# Altium schematic symbol library MyLib.SchLib: 2 symbols
Pins are listed as number, name and electrical type; pins without a type are passive.

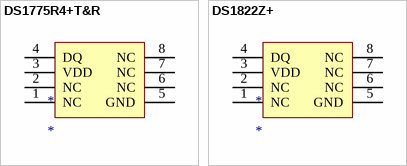
[diagram p0: symbols DS1775R4+T&R to DS1822Z+]

## DS1775R4+T&R
designator *
SENSOR TEMPERATURE I2C SOT23-5; Manufacturer: Maxim Integrated; Manufacturer Part Number: DS1775R4+T&R; Sensor Type: Digital, Local; Sensing Temperature - Local: -55°C ~ 125°C; Output Type: I²C; Voltage - Supply: 2.7 V ~ 5.5 V; Resolution: 11 b; Accuracy - Highest (Lowest): ±2°C (±3°C); Test Condition: 10°C ~ 85°C (-55°C ~ 125°C); Supplier 1: Digi-Key; RoHS: RoHS Compliant; Category: Sensors, Transducers; Stock 1: 5995; Pricing 1: 1=2.14, 10=2.015, 25=1.6116, 50=1.531, 100=1.4102, 250=1.33764, 500=1.28928 (USD); Packaging: Cut Tape (CT); Sensing Temperature - Remote: -; Features: Output Switch, Programmable Limit, Programmable Resolution, Shutdown Mode; Operating Temperature: -55°C ~ 125°C; Package / Case: SC-74A, SOT-753; Supplier Device Package: SOT-23-5; ComponentLink1URL: http://datasheets.maximintegrated.com/en/ds/DS1775-DS1775R.pdf; ComponentLink1Description: http://datasheets.maximintegrated.com/en/ds/DS1775-DS1775R.pdf
pins: 1 NC, 2 NC, 3 VDD, 4 DQ, 5 GND, 6 NC, 7 NC, 8 NC

## DS1822Z+
designator *
SENSOR TEMPERATURE 1-WIRE 8SOIC; Manufacturer: Maxim Integrated; Manufacturer Part Number: DS1822Z+; Sensor Type: Digital, Local; Sensing Temperature - Local: -55°C ~ 125°C; Output Type: 1-Wire®; Voltage - Supply: 3 V ~ 5.5 V; Resolution: 11 b; Accuracy - Highest (Lowest): ±2°C (±3°C); Test Condition: -10°C ~ 85°C (-55°C ~ 125°C); Supplier 1: Digi-Key; RoHS: RoHS Compliant; Category: Sensors, Transducers; Stock 1: 1532; Pricing 1: 1=2.4, 10=2.321 (USD); Packaging: Tube; Sensing Temperature - Remote: -; Features: Output Switch, Programmable Limit, Standby Mode; Operating Temperature: -55°C ~ 125°C; Package / Case: 8-SOIC (0.154", 3.90mm Width); Supplier Device Package: 8-SOIC; ComponentLink1URL: http://datasheets.maximintegrated.com/en/ds/DS1822.pdf; ComponentLink1Description: http://datasheets.maximintegrated.com/en/ds/DS1822.pdf; Supplier 2: Digi-Key; Stock 2: 5995; Pricing 2: 1=2.14, 10=2.015, 25=1.6116, 50=1.531, 100=1.4102, 250=1.33764, 500=1.28928 (USD); ComponentLink2URL: http://datasheets.maximintegrated.com/en/ds/DS1775-DS1775R.pdf; ComponentLink2Description: http://datasheets.maximintegrated.com/en/ds/DS1775-DS1775R.pdf
pins: 1 NC, 2 NC, 3 VDD, 4 DQ, 5 GND, 6 NC, 7 NC, 8 NC